# Altium schematic symbol library MOD-LM2596s.SchLib: 1 symbol
Pins are listed as number, name and electrical type; pins without a type are passive.

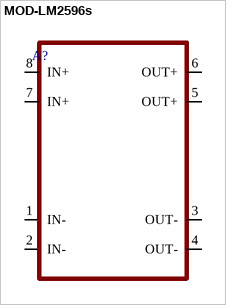
[diagram p0: symbol MOD-LM2596s]

## MOD-LM2596s
designator A?
pins: 1 IN-, 2 IN-, 3 OUT-, 4 OUT-, 5 OUT+, 6 OUT+, 7 IN+, 8 IN+